# Altium schematic symbol library MY LIB.SchLib: 14 symbols
Pins are listed as number, name and electrical type; pins without a type are passive.

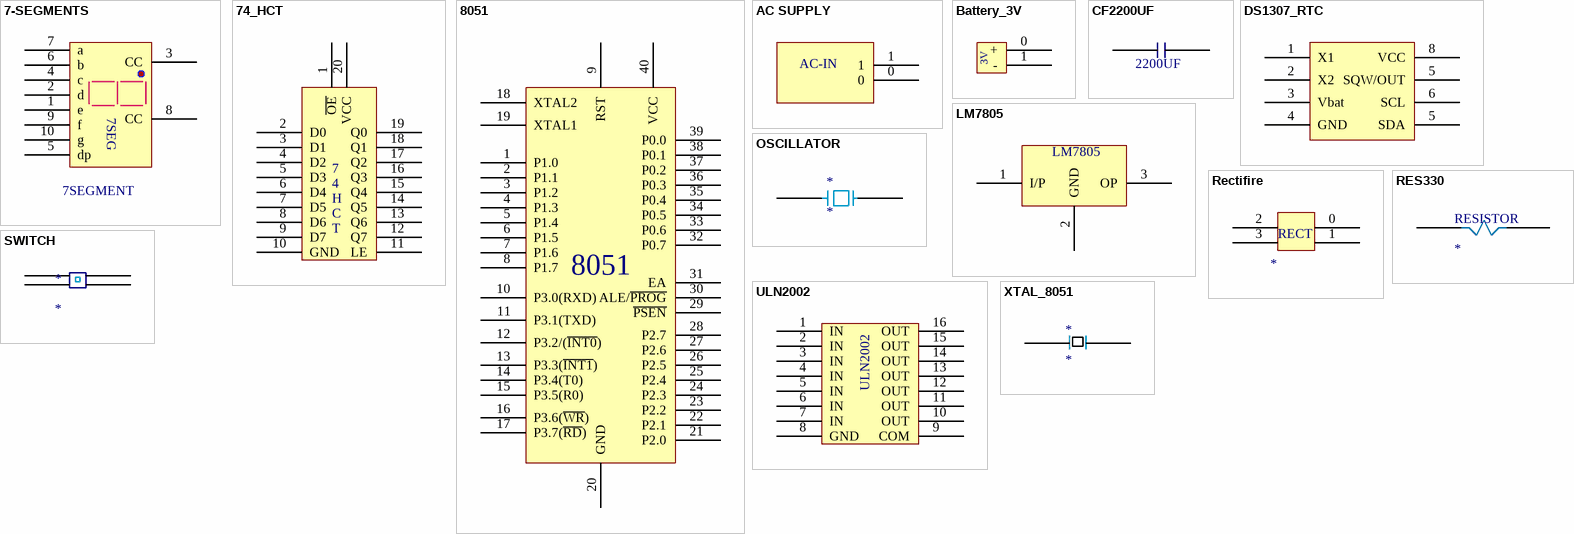
[diagram p0: symbols 7-SEGMENTS to XTAL_8051]

## 7-SEGMENTS
designator 7segments, comment 7SEGMENT
pins: 1 e, 2 d, 3 CC, 4 c, 5 dp, 6 b, 7 a, 8 CC, 9 f, 10 g
text: 7SEG

## 74_HCT
designator *  (value not drawn)
pins: 1 ~{OE}, 2 D0, 3 D1, 4 D2, 5 D3, 6 D4, 7 D5, 8 D6, 9 D7, 10 GND, 11 LE, 12 Q7, 13 Q6, 14 Q5, 15 Q4, 16 Q3, 17 Q2, 18 Q1, 19 Q0, 20 VCC
text: H; C; T

## 8051
designator *  (value not drawn)
pins: 1 P1.0, 2 P1.1, 3 P1.2, 4 P1.3, 5 P1.4, 6 P1.5, 7 P1.6, 8 P1.7, 9 RST, 10 P3.0(RXD), 11 P3.1(TXD), 12 P3.2/(~{INT0}), 13 P3.3(~{INT1}), 14 P3.4(T0), 15 P3.5(R0), 16 P3.6(~{WR}), 17 P3.7(~{RD}), 18 XTAL2, 19 XTAL1, 20 GND, 21 P2.0, 22 P2.1, 23 P2.2, 24 P2.3, 25 P2.4, 26 P2.5, 27 P2.6, 28 P2.7, 29 ~{PSEN}, 30 ALE/~{PROG}, 31 EA, 32 P0.7, 33 P0.6, 34 P0.5, 35 P0.4, 36 P0.3, 37 P0.2, 38 P0.1, 39 P0.0, 40 VCC

## AC SUPPLY
designator *  (value not drawn)
pins: 0, 1
text: AC-IN

## Battery_3V
designator *  (value not drawn)
pins: 0 +, 1 -
text: 3V

## CF2200UF
designator *  (value not drawn)
pins: 0, 1
text: 2200UF

## DS1307_RTC
designator *  (value not drawn)
pins: 1 X1, 2 X2, 3 Vbat, 4 GND, 5 SQW/OUT, 5 SDA, 6 SCL, 8 VCC

## LM7805
designator *  (value not drawn)
pins: 1 I/P, 2 GND, 3 OP

## OSCILLATOR
designator *
pins: 0, 1

## Rectifire
designator *
pins: 0, 1, 2, 3
text: RECT

## RES330
designator RESISTOR
pins: 0, 1

## SWITCH
designator *
pins: 0, 1, 2, 3

## ULN2002
designator *  (value not drawn)
pins: 1 IN, 2 IN , 3 IN, 4 IN, 5 IN, 6 IN, 7 IN, 8 GND, 9 COM, 10 OUT, 11 OUT, 12 OUT, 13 OUT, 14 OUT, 15 OUT, 16 OUT

## XTAL_8051
designator *
pins: 0, 1